# Altium footprint library Pulse.PcbLib: 3 footprints
Each footprint in its own frame and in the unit in brackets; x right, y up, seen from the top. Pads: shape width x height; smd on the part's side, far side on the other; paste and mask are expansions set on the pad; w line width, h text height; cw(c..) or ccw(c..) is an arc to the next point about the centre after c.
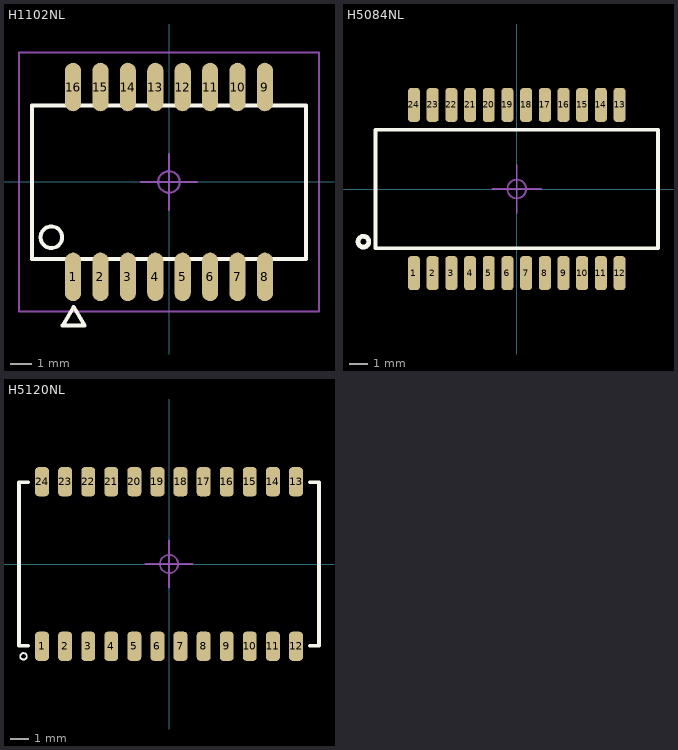
[diagram p0: the footprints below, top view; thin cyan lines are the x and y axes]

## H1102NL [mm]
pads (16):
  oval 0.75x2.25 smd: 1(-4.445,-4.4) 2(-3.175,-4.4) 3(-1.905,-4.4) 4(-0.635,-4.4) 5(0.635,-4.4) 6(1.905,-4.4) 7(3.175,-4.4) 8(4.445,-4.4) 9(4.445,4.4) 10(3.175,4.4) 11(1.905,4.4) 12(0.635,4.4) 13(-0.635,4.4) 14(-1.905,4.4) 15(-3.175,4.4) 16(-4.445,4.4)
Top Overlay:
  circle w0.178: c-5.45,-2.561 r0.5
  lines w0.178: -6.35,-3.561 6.35,-3.561 6.35,3.549 -6.35,3.549 -6.35,-3.561 ; -4.928,-6.649 -4.42,-5.791 -3.912,-6.649 -4.928,-6.649
Mechanical 15:
  circle w0.1: c0,0 r0.5
  lines w0.1: -1.3,0 0,0 ; 0,-1.3 0,0 ; 0,1.3 0,0 ; 1.3,0 0,0 ; -6.95,-6 6.95,-6 6.95,6 -6.95,6 -6.95,-6
3D body "H1102NL_3D.STEP": height 5.96, standoff 0.01, extent -6.35,-4.763 6.35,4.763

## H5084NL [mm]
pads (24):
  rrect50% 0.64x1.8 smd: 1(-5.5,-4.495) 2(-4.5,-4.495) 3(-3.5,-4.495) 4(-2.5,-4.495) 5(-1.5,-4.495) 6(-0.5,-4.495) 7(0.5,-4.495) 8(1.5,-4.495) 9(2.5,-4.495) 10(3.5,-4.495) 11(4.5,-4.495) 12(5.5,-4.495) 13(5.5,4.495) 14(4.5,4.495) 15(3.5,4.495) 16(2.5,4.495) 17(1.5,4.495) 18(0.5,4.495) 19(-0.5,4.495) 20(-1.5,4.495) 21(-2.5,4.495) 22(-3.5,4.495) 23(-4.5,4.495) 24(-5.5,4.495)
Top Overlay:
  circle w0.254: c-8.204,-2.819 r0.29
  lines w0.2: -7.555,-3.175 7.555,-3.175 7.555,3.175 -7.555,3.175 -7.555,-3.175
Mechanical 15:
  circle w0.1: c0,0 r0.5
  lines w0.1: -1.3,0 0,0 ; 0,-1.3 0,0 ; 0,1.3 0,0 ; 1.3,0 0,0

## H5120NL [mm]
pads (24):
  rrect50% 0.76x1.6 smd: 1(-6.985,-4.525) 2(-5.715,-4.525) 3(-4.445,-4.525) 4(-3.175,-4.525) 5(-1.905,-4.525) 6(-0.635,-4.525) 7(0.635,-4.525) 8(1.905,-4.525) 9(3.175,-4.525) 10(4.445,-4.525) 11(5.715,-4.525) 12(6.985,-4.525) 13(6.985,4.525) 14(5.715,4.525) 15(4.445,4.525) 16(3.175,4.525) 17(1.905,4.525) 18(0.635,4.525) 19(-0.635,4.525) 20(-1.905,4.525) 21(-3.175,4.525) 22(-4.445,4.525) 23(-5.715,4.525) 24(-6.985,4.525)
Top Overlay:
  circle w0.1: c-8.001,-5.08 r0.18
  lines w0.2: -7.75,-4.5 -8.25,-4.5 -8.25,4.5 -7.75,4.5 ; 7.75,-4.5 8.25,-4.5 8.25,4.5 7.75,4.5
Mechanical 15:
  circle w0.1: c0,0 r0.5
  lines w0.1: -1.3,0 0,0 ; 0,-1.3 0,0 ; 0,1.3 0,0 ; 1.3,0 0,0
3D body "H5120NL_3D.STEP": height 2.01, standoff -0.08, extent -8.23,-4.763 8.23,4.763